# Altium footprint library QUTMS_IntegratedCircuitLibrary.PcbLib: 3 footprints
Each footprint in its own frame and in the unit in brackets; x right, y up, seen from the top. Pads: shape width x height; smd on the part's side, far side on the other; paste and mask are expansions set on the pad; w line width, h text height; cw(c..) or ccw(c..) is an arc to the next point about the centre after c.
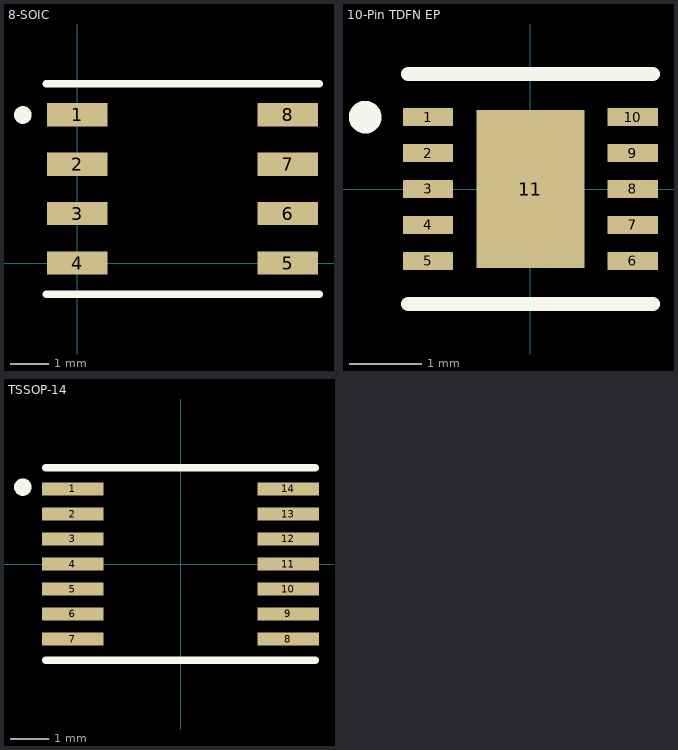
[diagram p0: the footprints below, top view; thin cyan lines are the x and y axes]

## 8-SOIC [mm]
pads (8):
  rect 1.55x0.6 smd: 1(0,3.81) 2(0,2.54) 3(0,1.27) 4(0,0) 5(5.4,0) 6(5.4,1.27) 7(5.4,2.54) 8(5.4,3.81)
Top Overlay:
  circle w0.254: c-1.4,3.8 r0.1
  lines w0.2: -0.8,-0.8 6.2,-0.8 ; -0.8,4.6 6.2,4.6
3D body "8SIOC.stp": height 2, standoff 0.05, extent -0.399,-0.597 5.799,4.407

## 10-Pin TDFN EP [mm]
pads (11):
  rect 0.7x0.25 smd: 1(-1.425,1) 2(-1.425,0.5) 3(-1.425,0) 4(-1.425,-0.5) 5(-1.425,-1) 6(1.425,-1) 7(1.425,-0.5) 8(1.425,0) 9(1.425,0.5) 10(1.425,1)
  rect 1.5x2.2 smd paste-0.1: 11(0,0)
Top Overlay:
  circle w0.254: c-2.3,1 r0.1
  lines w0.2: -1.7,-1.6 1.7,-1.6 ; -1.7,1.6 1.7,1.6
3D body "TDFN50P-3MMX3MM-10 v0.step": height 0.76, standoff 0, extent -1.51,-1.5 1.51,1.5

## TSSOP-14 [mm]
pads (14):
  rect 1.6x0.35 smd: 1(-2.8,1.95) 2(-2.8,1.3) 3(-2.8,0.65) 4(-2.8,0) 5(-2.8,-0.65) 6(-2.8,-1.3) 7(-2.8,-1.95) 8(2.8,-1.95) 9(2.8,-1.3) 10(2.8,-0.65) 11(2.8,0) 12(2.8,0.65) 13(2.8,1.3) 14(2.8,1.95)
Top Overlay:
  circle w0.254: c-4.1,2 r0.1
  lines w0.2: -3.5,-2.5 3.5,-2.5 ; -3.5,2.5 3.5,2.5
3D body "TSSOP-14.stp": height 1.11, standoff 0.01, extent -3.215,-2.225 3.216,2.225